# EAGLE library part MC79L05ABDG (library nw2s)
Negative Linear Voltage Regulator
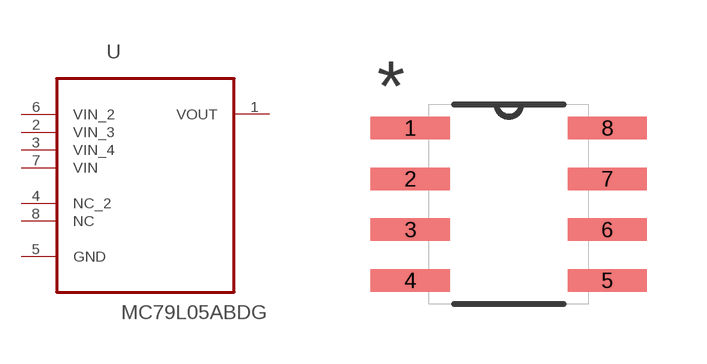
[diagram p15: symbol with the pads of SOIC127P600X175-8N2; footprint SOIC127P600X175-8N2]

Designator prefix U

## MC79L05ABDG (MPN: MC79L05ABDG; OC_FARNELL: 1652359; OC_NEWARK: 71J5761; PACKAGE: 8-SOIC; SUPPLIER: ON Semi)  [SOIC127P600X175-8N2]
1  VOUT  out
2  VIN_3  in
3  VIN_4  in
4  NC_2  nc
5  GND  pas
6  VIN_2  in
7  VIN  in
8  NC  nc

## Footprint SOIC127P600X175-8N2 (pad centres in mm)
smd 1.981 x 0.559: 1 -2.464,1.905; 2 -2.464,0.635; 3 -2.464,-0.635; 4 -2.464,-1.905; 5 2.464,-1.905; 6 2.464,-0.635; 7 2.464,0.635; 8 2.464,1.905